# EAGLE library part BLE113-A (library BitFit)
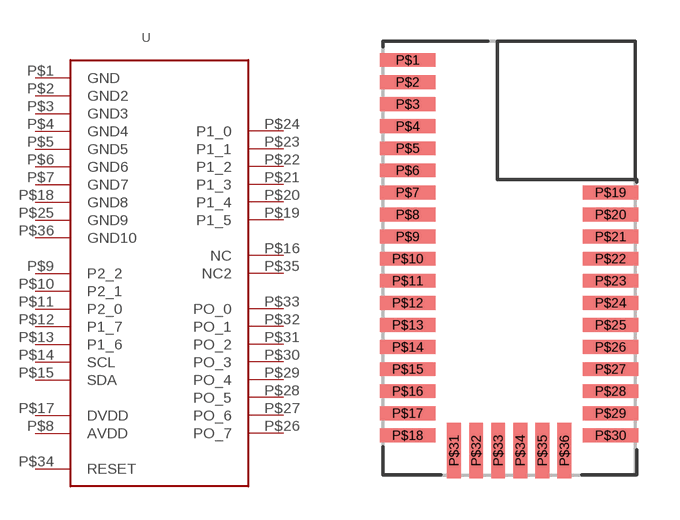
[diagram p1: symbol with the pads of BLUETOOTHNS; footprint BLUETOOTHNS]

Designator prefix -

## BLE113-A  [BLUETOOTHNS]
P$1  GND
P$2  GND2
P$3  GND3
P$4  GND4
P$5  GND5
P$6  GND6
P$7  GND7
P$8  AVDD
P$9  P2_2
P$10  P2_1
P$11  P2_0
P$12  P1_7
P$13  P1_6
P$14  SCL
P$15  SDA
P$16  NC
P$17  DVDD
P$18  GND8
P$19  P1_5
P$20  P1_4
P$21  P1_3
P$22  P1_2
P$23  P1_1
P$24  P1_0
P$25  GND9
P$26  PO_7
P$27  PO_6
P$28  PO_5
P$29  PO_4
P$30  PO_3
P$31  PO_2
P$32  PO_1
P$33  PO_0
P$34  RESET
P$35  NC2
P$36  GND10

## Footprint BLUETOOTHNS (pad centres in mm)
smd 2 x 0.5: P$1 0.9,-0.675; P$2 0.9,-1.475; P$3 0.9,-2.275; P$4 0.9,-3.075; P$5 0.9,-3.875; P$6 0.9,-4.675; P$7 0.9,-5.475; P$8 0.9,-6.275; P$9 0.9,-7.075; P$10 0.9,-7.875; P$11 0.9,-8.675; P$12 0.9,-9.475; P$13 0.9,-10.275; P$14 0.9,-11.075; P$15 0.9,-11.875; P$16 0.9,-12.675; P$17 0.9,-13.475; P$18 0.9,-14.275; P$19 8.25,-5.475; P$20 8.25,-6.275; P$21 8.25,-7.075; P$22 8.25,-7.875; P$23 8.25,-8.675; P$24 8.25,-9.475; P$25 8.25,-10.275; P$26 8.25,-11.075; P$27 8.25,-11.875; P$28 8.25,-12.675; P$29 8.25,-13.475; P$30 8.25,-14.275
smd 0.5 x 2: P$31 2.575,-14.825; P$32 3.375,-14.825; P$33 4.175,-14.825; P$34 4.975,-14.825; P$35 5.775,-14.825; P$36 6.575,-14.825